# EAGLE library part USB_NEW (library 000_CustomPartsMaster)
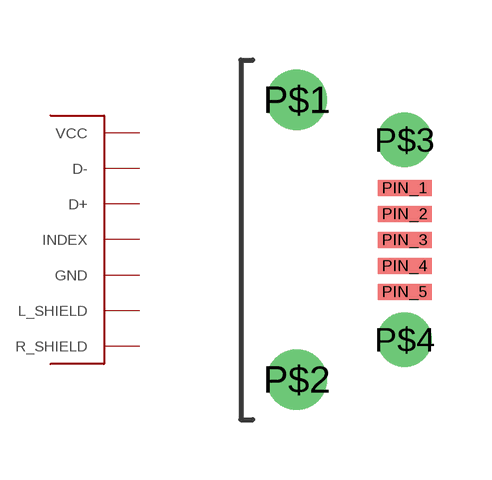
[diagram p21: symbol with the pads of USBMICROB-PAC; footprint USBMICROB-PAC]

Designator prefix -

## USB_NEW  [USBMICROB-PAC]
P$1  R_SHIELD
P$2  L_SHIELD
P$3  R_SHIELD
P$4  L_SHIELD
PIN_1  VCC
PIN_2  D-
PIN_3  D+
PIN_4  INDEX
PIN_5  GND

## Footprint USBMICROB-PAC (pad centres in mm)
drill 1: P$1 0,3.5; P$2 0,-3.5
drill 0.85: P$3 2.7,2.5; P$4 2.7,-2.5
smd 1.35 x 0.4: PIN_1 2.7,1.3; PIN_2 2.7,0.65; PIN_3 2.7,0; PIN_4 2.7,-0.65; PIN_5 2.7,-1.3